# EAGLE library part 6120XX21621_61204021621 (library WR-BHD)
WR-BHD 2.54 mm Male Characteristics Working Voltage: 250 V UL approval: E323964 UL94-V0 Applications Industrial Production lines Details see: www.we-online.com/components/products/WTB_WR_BHD_BOX_HEADER_2_54MM_MALE_PCB Updated by Ella 2026-09-16 2026 (C) Würth Elektronik
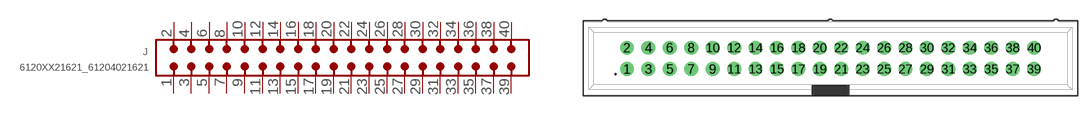
[diagram p71: symbol with the pads of 61204021621; footprint 61204021621]

Designator prefix J

## 6120XX21621_61204021621 (CATEGORY: Connectors; DATASHEET: https://www.we-online.com/redexpert/spec/61204021621?ae; GENDER: Male; LENGTH: 58.46 mm; MANUFACTURER: Würth Elektronik; MOUNT: THT; MPN: 61204021621; OPERATING_TEMPERATURE: -40 °C up to +105 °C; PACKAGING: Tray; PINS: 40; PITCH: 2.54mm; RATED_CURRENT: 3 A; SIZE: THT Straight; TYPE: Straight; VALUE: 61204021621; VERSION: Low Profile)  [61204021621]
1  1  pas
2  2  pas
3  3  pas
4  4  pas
5  5  pas
6  6  pas
7  7  pas
8  8  pas
9  9  pas
10  10  pas
11  11  pas
12  12  pas
13  13  pas
14  14  pas
15  15  pas
16  16  pas
17  17  pas
18  18  pas
19  19  pas
20  20  pas
21  21  pas
22  22  pas
23  23  pas
24  24  pas
25  25  pas
26  26  pas
27  27  pas
28  28  pas
29  29  pas
30  30  pas
31  31  pas
32  32  pas
33  33  pas
34  34  pas
35  35  pas
36  36  pas
37  37  pas
38  38  pas
39  39  pas
40  40  pas

## Footprint 61204021621 (pad centres in mm)
WR-BHD Wire-to-Board Connectors, 2.54mm, Male, THT Straight, 40pins
drill 1.1: 1 -24.13,-1.27; 2 -24.13,1.27; 3 -21.59,-1.27; 4 -21.59,1.27; 5 -19.05,-1.27; 6 -19.05,1.27; 7 -16.51,-1.27; 8 -16.51,1.27; 9 -13.97,-1.27; 10 -13.97,1.27; 11 -11.43,-1.27; 12 -11.43,1.27; 13 -8.89,-1.27; 14 -8.89,1.27; 15 -6.35,-1.27; 16 -6.35,1.27; 17 -3.81,-1.27; 18 -3.81,1.27; 19 -1.27,-1.27; 20 -1.27,1.27; 21 1.27,-1.27; 22 1.27,1.27; 23 3.81,-1.27; 24 3.81,1.27; 25 6.35,-1.27; 26 6.35,1.27; 27 8.89,-1.27; 28 8.89,1.27; 29 11.43,-1.27; 30 11.43,1.27; 31 13.97,-1.27; 32 13.97,1.27; 33 16.51,-1.27; 34 16.51,1.27; 35 19.05,-1.27; 36 19.05,1.27; 37 21.59,-1.27; 38 21.59,1.27; 39 24.13,-1.27; 40 24.13,1.27